# Altium schematic symbol library TPS22918DBVR.SchLib: 1 symbol
Pins are listed as number, name and electrical type; pins without a type are passive.

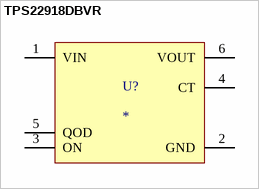
[diagram p0: symbol TPS22918DBVR]

## TPS22918DBVR
designator U?
5.5-V, 2-A, 52-mÎ© load switch with adj. rise time and adj. output discharge; MF: Texas Instruments; MP: TPS22918DBVR; SnapEDA_Link: https://www.snapeda.com/parts/TPS22918DBVR/Texas+Instruments/view-part/?ref=snap; Package: SOT-23-6 Texas Instruments; Value: *; Check_prices: https://www.snapeda.com/parts/TPS22918DBVR/Texas+Instruments/view-part/?ref=eda
footprint SOT95P280X145-6N
pins: 1 VIN, 2 GND, 3 ON, 4 CT, 5 QOD, 6 VOUT